# EAGLE library part MICROBUILDER_DISP_LCD_TM022HDH26 (library LayerOne_2017)
TM022HDH26 2.2 Inch 240x320 18-bit LCD - ILI9340C Controller
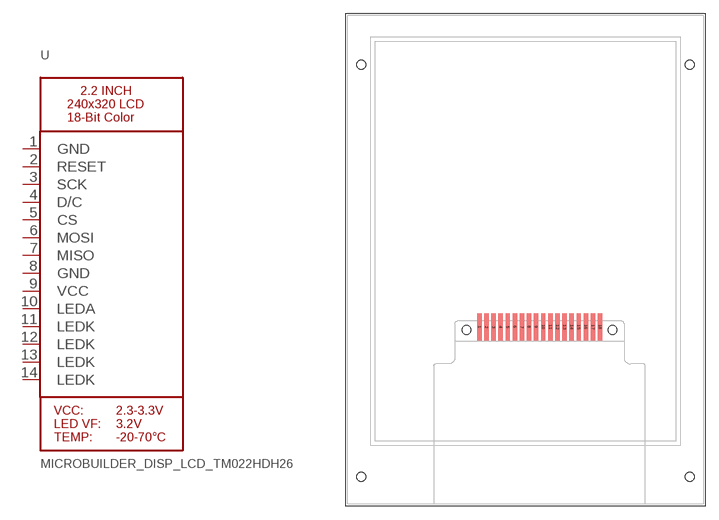
[diagram p6: symbol with the pads of MICROBUILDER_TM022HDH26_2.2IN_LCD; footprint MICROBUILDER_TM022HDH26_2.2IN_LCD]

Designator prefix U

## MICROBUILDER_DISP_LCD_TM022HDH26  [MICROBUILDER_TM022HDH26_2.2IN_LCD]
1  GND  pwr
2  RESET  in
3  SCK  in
4  D/C  in
5  CS  in
6  MOSI  in
7  MISO  out
8  GND  pwr
9  VCC  pwr
10  LEDA  pwr
11  LEDK  pwr
12  LEDK  pwr
13  LEDK  pwr
14  LEDK  pwr

## Footprint MICROBUILDER_TM022HDH26_2.2IN_LCD (pad centres in mm)
smd 0.5 x 3: 1 -5.2,-9.66; 2 -4.4,-9.66; 3 -3.6,-9.66; 4 -2.8,-9.66; 5 -2,-9.66; 6 -1.2,-9.66; 7 -0.4,-9.66; 8 0.4,-9.66; 9 1.2,-9.66; 10 2,-9.66; 11 2.8,-9.66; 12 3.6,-9.66; 13 4.4,-9.66; 14 5.2,-9.66; 15 6,-9.66; 16 6.8,-9.66; 17 7.6,-9.66; 18 8.4,-9.66
hole 1 at -6.65,-10.01
hole 1 at 9.8,-10.01
hole 1 at 18.5,19.92
hole 1 at -18.5,19.92
hole 1 at -18.5,-26.58
hole 1 at 18.5,-26.58